# EAGLE library part BNO055_LIGHT (library DVD)
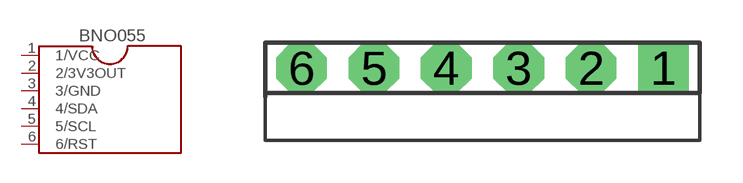
[diagram p0: symbol with the pads of DIL12-6-0; footprint DIL12-6-0]

Designator prefix -

## BNO055_LIGHT  [DIL12-6-0]
1  1/VCC  pwr
2  2/3V3OUT  pwr
3  3/GND  pwr
4  4/SDA
5  5/SCL
6  6/RST  in

## Footprint DIL12-6-0 (pad centres in mm)
drill 0.9 pad 1.778 square: 1 6.35,0
drill 0.9 pad 1.778 octagon: 2 3.81,0; 3 1.27,0; 4 -1.27,0; 5 -3.81,0; 6 -6.35,0